# Altium integrated library sensor-infratec.IntLib: 1 symbol
Pins are listed as number, name and electrical type; pins without a type are passive.

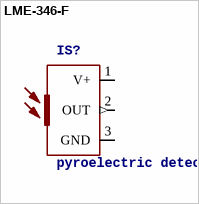
[diagram p0: symbol LME-346-F]

## LME-346-F
designator IS?, comment pyroelectric detector   Source: http://www.InfraTec.de .. Datasheet_S85159.pdf
OC_FARNELL: unknown; OC_NEWARK: unknown
footprint TO39
pins: 1 V+ (power), 2 OUT (out), 3 GND (power)